# EAGLE library part IRF8910GPBF (library Leistungsschalter - IRF8910GPbF)
Name des Bauteiles:HEXFET Power MOSFET "IRF8910GPBF" Daten:VDSS = 20 V , RDSon = 13,4mOhm @ VGS = 10 V , ID = 10 A Artikelnummer: Datenblatt:
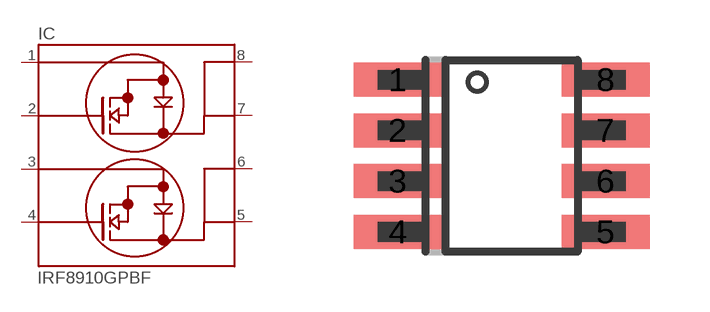
[diagram p0: symbol with the pads of SO8; footprint SO8]

Designator prefix IC

## IRF8910GPBFSMD  [SO8]
1  S1  in
2  G1  in
3  S2  in
4  G2  in
5  D2.1  out
6  D2  out
7  D1.2  out
8  D1  out

## Footprint SO8 (pad centres in mm)
smd 2.2 x 0.854: 1 -2.6,1.905; 2 -2.6,0.635; 3 -2.6,-0.635; 4 -2.6,-1.905; 5 2.6,-1.905; 6 2.6,-0.635; 7 2.6,0.635; 8 2.6,1.905